# Altium schematic symbol library Switch,DIP,4P,Slide,SPST.Schlib: 1 symbol
Pins are listed as number, name and electrical type; pins without a type are passive.

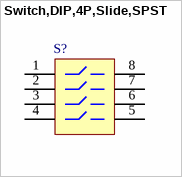
[diagram p0: symbol Switch,DIP,4P,Slide,SPST]

## Switch,DIP,4P,Slide,SPST
designator S?
pins: 1, 2, 3, 4, 5, 6, 7, 8